# Altium footprint library TE_282837-3.PcbLib: 1 footprints
Each footprint in its own frame and in the unit in brackets; x right, y up, seen from the top. Pads: shape width x height; smd on the part's side, far side on the other; paste and mask are expansions set on the pad; w line width, h text height; cw(c..) or ccw(c..) is an arc to the next point about the centre after c.
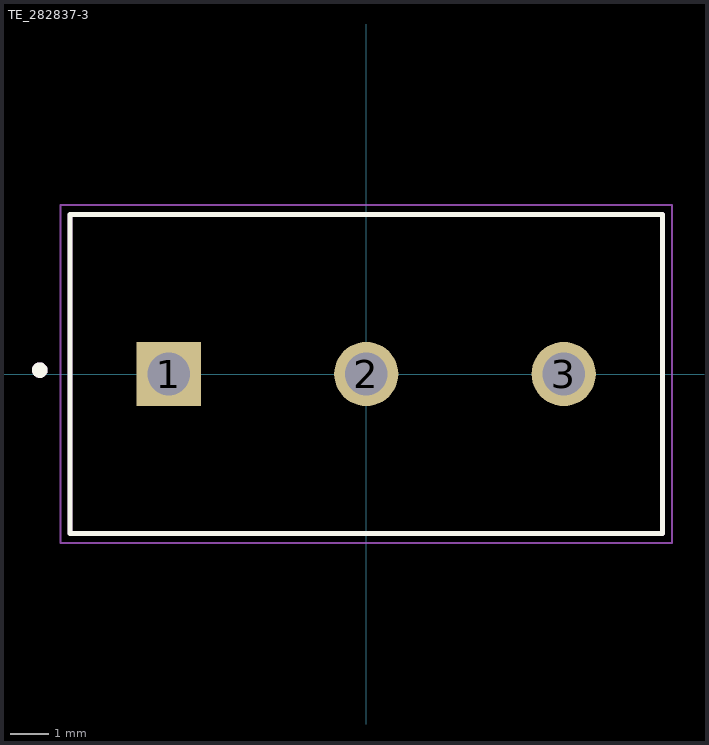
[diagram p0: the footprint, top view; thin cyan lines are the x and y axes]

## TE_282837-3 [mm]
pads (3):
  rect 1.65x1.65 hole 1.1: 1(-5.08,0)
  round 1.65 hole 1.1: 2(0,0) 3(5.08,0)
Top Overlay:
  circle w0.2: c-8.4,0.1 r0.1
  lines w0.127: -7.62,-4.1 7.62,-4.1 7.62,4.1 -7.62,4.1 -7.62,-4.1
Mechanical 13:
  circle w0.2: c-8.4,0.1 r0.1
  lines w0.127: -7.62,-4.1 7.62,-4.1 7.62,4.1 -7.62,4.1 -7.62,-4.1
Mechanical 15:
  lines w0.05: -7.87,-4.35 7.87,-4.35 7.87,4.35 -7.87,4.35 -7.87,-4.35
3D body "step_temp.STEP": height 7.25, standoff -6.25, extent -7.874,-4.1 7.966,4.1